# Altium schematic symbol library jx.SCHLIB: 54 symbols
Pins are listed as number, name and electrical type; pins without a type are passive.

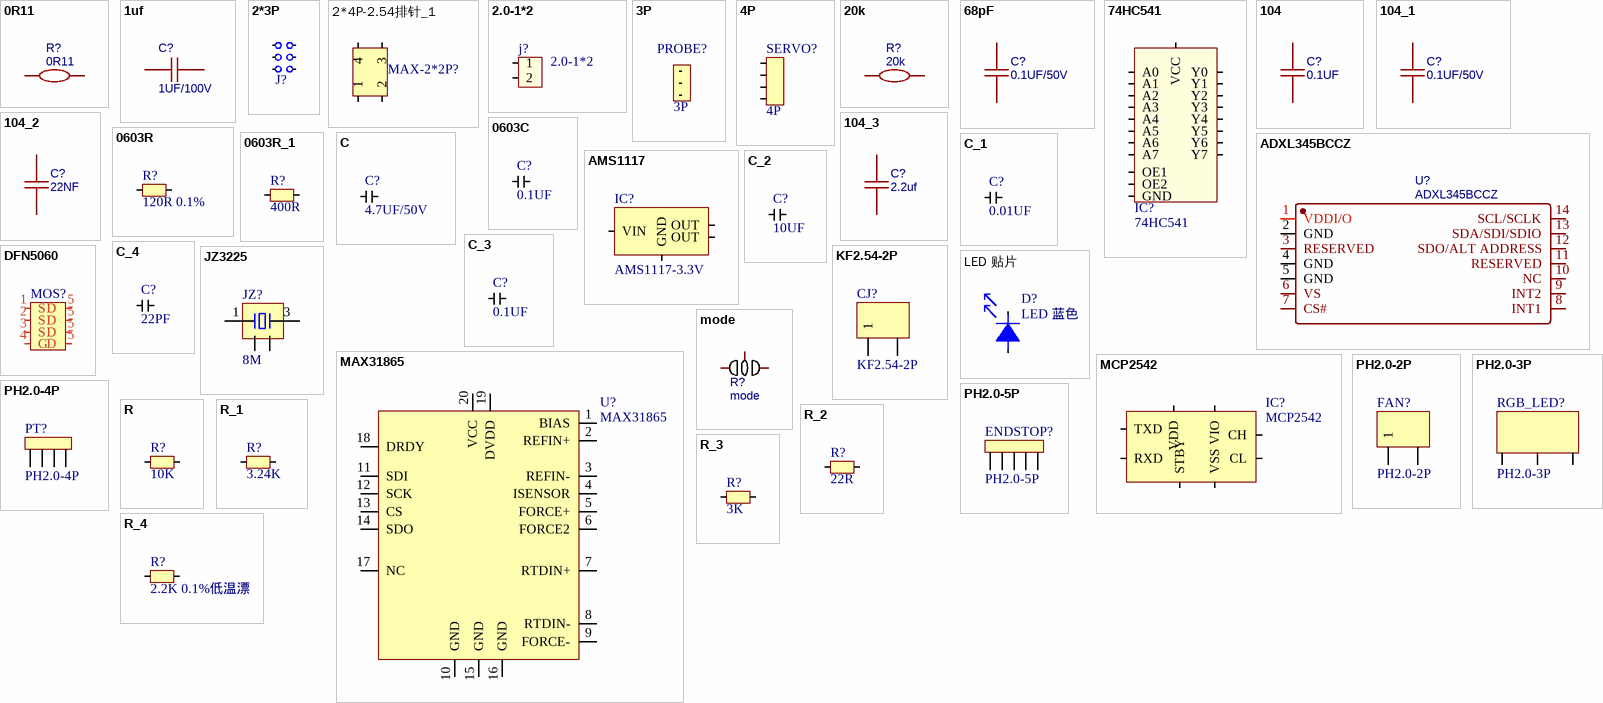
[diagram p0: symbols 0R11 to R_4]

## 0R11
designator R?
BOM_Manufacturer: Uniroyal Elec; BOM_Manufacturer Part: 0805W8F3922T5E; nameAlias: Resistance (Ohms); Contributor: LCSC; SMT Type: Extend; BOM_Supplier: LCSC; BOM_Supplier Part: C60005; BOM_LCSC Assembly: Yes; spicePre: R; spiceSymbolName: 0805W8F3922T5E_C60005
footprint R0805
footprint 0805
pins: 1, 2

## 1uf
designator C?, comment 1UF/100V
BOM_Manufacturer: KEMET; BOM_Manufacturer Part: C0603C225K4PACTU; nameAlias: Capacitance; Contributor: LCSC; BOM_Supplier: LCSC; BOM_Supplier Part: C452748; spicePre: C; spiceSymbolName: C0603C225K4PACTU
footprint C0603
footprint 0603
pins: 1, 2

## 2*3P
designator J?, comment 2*3排母-2.0-镀金  (value not drawn)
footprint 2*3P
footprint 2.0MM-2*3P -插针
footprint 2.0MM-2*3P 排母
pins: 1, 2, 3, 4, 5, 6

## 2*4P-2.54排针_1
designator MAX-2*2P?  (value not drawn)
footprint MX4.2-2*2P
pins: 1, 2, 3, 4

## 2.0-1*2
designator j?
footprint 2.0MM-1*2P -插针
pins: 1, 2

## 3P
designator PROBE?
footprint 3P
footprint 2.54排针-3P贴片
pins: 1, 2, 3

## 4P
designator SERVO?
footprint 4p
pins: 1, 2, 3, 4

## 20k
designator R?
BOM_Manufacturer: TA-I Tech; BOM_Manufacturer Part: RMS04FT1821; nameAlias: Resistance (Ohms); Contributor: LCSC; BOM_Supplier: LCSC; BOM_Supplier Part: C208812; spicePre: R; spiceSymbolName: RMS04FT1821
footprint R0402
footprint 0402
footprint 0603
pins: 1, 2

## 68pF
designator C?, comment 0.1UF/50V
BOM_Manufacturer: Guangdong Fenghua Advanced Tech; BOM_Manufacturer Part: 0402CG680J250NT; nameAlias: Capacitance; Contributor: LCSC; BOM_Supplier: LCSC; BOM_Supplier Part: C285179; spicePre: C; spiceSymbolName: 0402CG680J250NT
footprint C0402
pins: 1, 2

## 74HC541
designator IC?
footprint TSSOP-20
pins: 1 OE1, 2 A0, 3 A1, 4 A2, 5 A3, 6 A4, 7 A5, 8 A6, 9 A7, 10 GND, 11 Y7, 12 Y6, 13 Y5, 14 Y4, 15 Y3, 16 Y2, 17 Y1, 18 Y0, 19 OE2, 20 VCC

## 104
designator C?, comment 0.1UF
BOM_Manufacturer: Guangdong Fenghua Advanced Tech; BOM_Manufacturer Part: 0402CG680J250NT; nameAlias: Capacitance; Contributor: LCSC; BOM_Supplier: LCSC; BOM_Supplier Part: C285179; spicePre: C; spiceSymbolName: 0402CG680J250NT
footprint C0402
footprint 0402
footprint 0603
pins: 1, 2

## 104_1
designator C?, comment 0.1UF/50V
BOM_Manufacturer: Guangdong Fenghua Advanced Tech; BOM_Manufacturer Part: 0402CG680J250NT; nameAlias: Capacitance; Contributor: LCSC; BOM_Supplier: LCSC; BOM_Supplier Part: C285179; spicePre: C; spiceSymbolName: 0402CG680J250NT
footprint C0402
footprint 0402
footprint 0603
pins: 1, 2

## 104_2
designator C?, comment 22NF
BOM_Manufacturer: Guangdong Fenghua Advanced Tech; BOM_Manufacturer Part: 0402CG680J250NT; nameAlias: Capacitance; Contributor: LCSC; BOM_Supplier: LCSC; BOM_Supplier Part: C285179; spicePre: C; spiceSymbolName: 0402CG680J250NT
footprint C0402
footprint 0402
footprint 0603
pins: 1, 2

## 104_3
designator C?, comment 2.2uf
BOM_Manufacturer: Guangdong Fenghua Advanced Tech; BOM_Manufacturer Part: 0402CG680J250NT; nameAlias: Capacitance; Contributor: LCSC; BOM_Supplier: LCSC; BOM_Supplier Part: C285179; spicePre: C; spiceSymbolName: 0402CG680J250NT
footprint C0402
footprint 0402
footprint 0603
pins: 1, 2

## 0603C
designator C?, comment 0.1UF
footprint 0603C
footprint 0805
pins: 1, 2

## 0603R
designator R?, comment 120R 0.1%
footprint 0603
pins: 1, 2

## 0603R_1
designator R?, comment 400R
footprint 0603
pins: 1, 2

## ADXL345BCCZ
designator U?
BOM_Manufacturer: ADI(亚德诺)/LINEAR; Contributor: LCSC; BOM_Supplier: LCSC; BOM_Supplier Part: C579456; BOM_Manufacturer Part: ADXL345BCCZ; BOM_JLCPCB Part Class: Extended Part; spicePre: U; spiceSymbolName: ADXL345BCCZ
footprint LGA-14_L5.0-W3.0-P0.80-BL
footprint ADXL345
pins: 1 VDDI/O, 2 GND, 3 RESERVED, 4 GND, 5 GND, 6 VS, 7 CS#, 8 INT1, 9 INT2, 10 NC, 11 RESERVED, 12 SDO/ALT ADDRESS, 13 SDA/SDI/SDIO, 14 SCL/SCLK

## AMS1117
designator IC?, comment AMS1117-3.3V
footprint AMS1117
pins: 1 GND, 2 OUT, 3 VIN, 4 OUT

## C
designator C?, comment 4.7UF/50V
footprint 0603C
footprint 1206
footprint C0402
footprint C0402
footprint C0805
pins: 1, 2

## C_1
designator C?, comment 0.01UF
footprint 0603C
footprint 1206
footprint C0402
footprint C0402
footprint C0805
pins: 1, 2

## C_2
designator C?, comment 10UF
footprint 0603C
footprint 1206
footprint C0402
footprint C0402
footprint C0805
pins: 1, 2

## C_3
designator C?, comment 0.1UF
footprint 0603C
footprint 1206
footprint C0402
footprint C0402
footprint C0805
pins: 1, 2

## C_4
designator C?, comment 22PF
footprint 0603C
footprint 1206
footprint C0402
footprint C0402
footprint C0805
pins: 1, 2

## DFN5060
designator MOS?, comment HSBB6115  (value not drawn)
footprint DFN-5060
footprint PRPAK3*3
pins: 1 S, 2 S, 3 S, 4 G, 5 D, 5 D, 5 D, 5 D

## JZ3225
designator JZ?, comment 8M
footprint OSC-3225-4P
pins: 1, 2, 3, 4

## KF2.54-2P
designator CJ?
footprint KF2.54-2P
pins: 1, 2

## LED 贴片
designator D?, comment LED 蓝色
footprint 0603LED
footprint 0805灯
footprint 0402led
pins: 1, 2

## MAX31865
designator U?
footprint QFN20
pins: 1 BIAS, 2 REFIN+, 3 REFIN-, 4 ISENSOR, 5 FORCE+, 6 FORCE2, 7 RTDIN+, 8 RTDIN-, 9 FORCE-, 10 GND, 11 SDI, 12 SCK, 13 CS, 14 SDO, 15 GND, 16 GND, 17 NC, 18 DRDY, 19 DVDD, 20 VCC

## MCP2542
designator IC?
footprint SOIC-8
pins: 1 TXD, 2 VSS, 3 VDD, 4 RXD, 5 VIO, 6 CL, 7 CH, 8 STBY

## mode
designator R?
Contributor: FLYMAKER; spicePre: R; spiceSymbolName: mode
footprint MODE
footprint switch2
footprint switch2
pins: 1, 2, 3

## PH2.0-2P
designator FAN?
footprint PH2.0-2P
pins: 1, 2

## PH2.0-3P
designator RGB_LED?
footprint PH2.0-3P
pins: 1, 2, 3

## PH2.0-4P
designator PT?
footprint PH2.0-4P
pins: 1, 2, 3, 4

## PH2.0-5P
designator ENDSTOP?
footprint PH2.0-5P
pins: 1, 2, 3, 4, 5

## R
designator R?, comment 10K
footprint 0603
footprint 0805
footprint 1206
footprint R0402
pins: 1, 2

## R_1
designator R?, comment 3.24K
footprint 0603
footprint 0805
footprint 1206
footprint R0402
pins: 1, 2

## R_2
designator R?, comment 22R
footprint 0603
footprint 0805
footprint 1206
footprint R0402
pins: 1, 2

## R_3
designator R?, comment 3K
footprint 0603
footprint 0805
footprint 1206
footprint R0402
pins: 1, 2

## R_4
designator R?, comment 2.2K 0.1%低温漂
footprint 0603
footprint 0805
footprint 1206
footprint R0402
pins: 1, 2

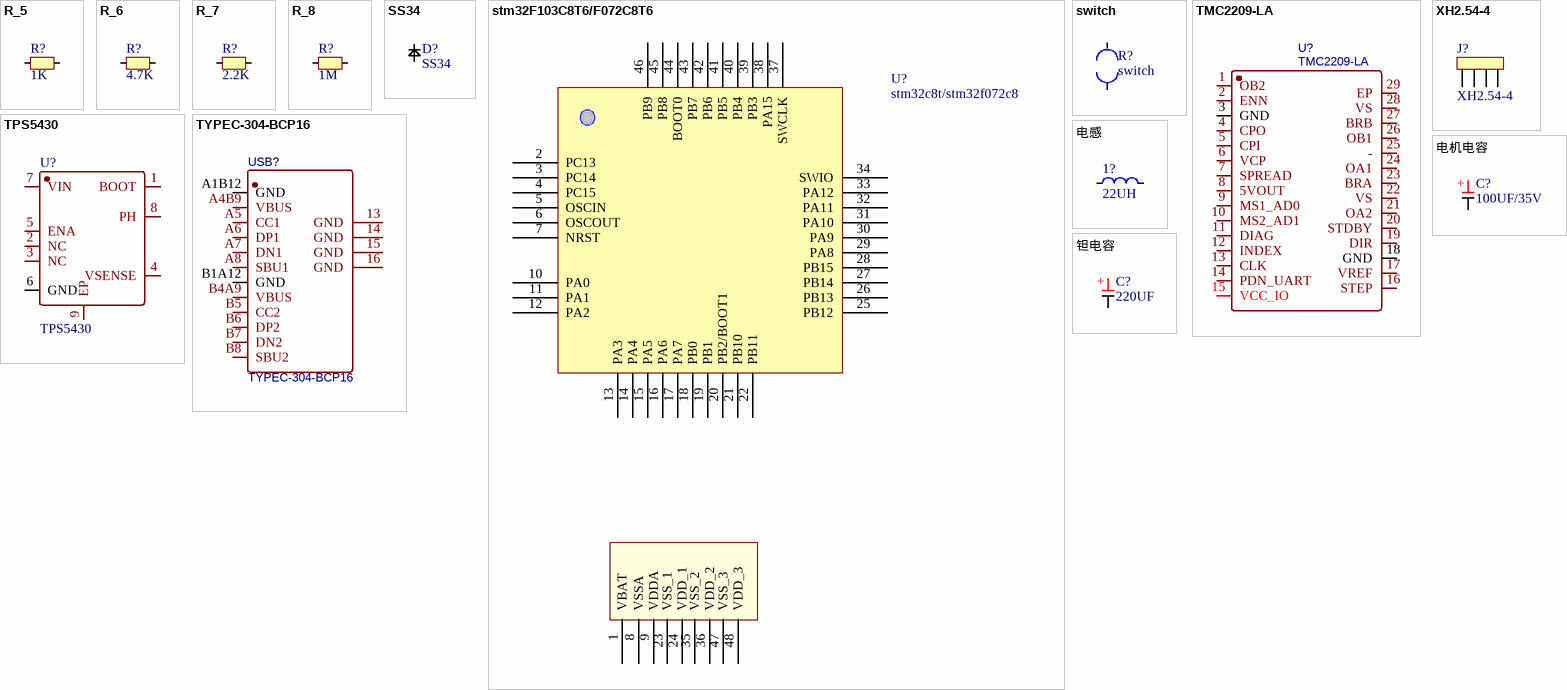
[diagram p1: symbols R_5 to 钽电容]

## R_5
designator R?, comment 1K
footprint 0603
footprint 0805
footprint 1206
footprint R0402
pins: 1, 2

## R_6
designator R?, comment 4.7K
footprint 0603
footprint 0805
footprint 1206
footprint R0402
pins: 1, 2

## R_7
designator R?, comment 2.2K
footprint 0603
footprint 0805
footprint 1206
footprint R0402
pins: 1, 2

## R_8
designator R?, comment 1M
footprint 0603
footprint 0805
footprint 1206
footprint R0402
pins: 1, 2

## SS34
designator D?
footprint SMA
pins: 1, 2

## stm32F103C8T6/F072C8T6
designator U?, comment stm32c8t/stm32f072c8
footprint LQFP-48
pins: 1 VBAT, 2 PC13, 3 PC14, 4 PC15, 5 OSCIN, 6 OSCOUT, 7 NRST, 8 VSSA, 9 VDDA, 10 PA0, 11 PA1, 12 PA2, 13 PA3, 14 PA4, 15 PA5, 16 PA6, 17 PA7, 18 PB0, 19 PB1, 20 PB2/BOOT1, 21 PB10, 22 PB11, 23 VSS_1, 24 VDD_1, 25 PB12, 26 PB13, 27 PB14, 28 PB15, 29 PA8, 30 PA9, 31 PA10, 32 PA11, 33 PA12, 34 SWIO, 35 VSS_2, 36 VDD_2, 37 SWCLK, 38 PA15, 39 PB3, 40 PB4, 41 PB5, 42 PB6, 43 PB7, 44 BOOT0, 45 PB8, 46 PB9, 47 VSS_3, 48 VDD_3

## switch
designator R?
footprint switch
pins: 1, 2

## TMC2209-LA
designator U?
BOM_Manufacturer: TRINAMIC Motion Control GmbH; Contributor: LCSC; SMT Type: Extend; BOM_Supplier: LCSC; BOM_Supplier Part: C465949; BOM_Manufacturer Part: TMC2209-LA; BOM_LCSC Assembly: Yes; spicePre: U; spiceSymbolName: TMC2209-LA
footprint QFN-28_L5.0-W5.0-P0.50-BL-EP
footprint TMC2209
pins: 1 OB2, 2 ENN, 3 GND, 4 CPO, 5 CPI, 6 VCP, 7 SPREAD, 8 5VOUT, 9 MS1_AD0, 10 MS2_AD1, 11 DIAG, 12 INDEX, 13 CLK, 14 PDN_UART, 15 VCC_IO, 16 STEP, 17 VREF, 18 GND, 19 DIR, 20 STDBY, 21 OA2, 22 VS, 23 BRA, 24 OA1, 25 -, 26 OB1, 27 BRB, 28 VS, 29 EP

## TPS5430
designator U?
footprint TPS5430
pins: 1 BOOT, 2 NC, 3 NC, 4 VSENSE, 5 ENA, 6 GND, 7 VIN, 8 PH, 9 EP

## TYPEC-304-BCP16
designator USB?
BOM_Manufacturer: XUNPU; Contributor: LCSC; BOM_Supplier: LCSC; BOM_Supplier Part: C720629; BOM_Manufacturer Part: TYPEC-304-BCP16; spicePre: U; spiceSymbolName: TYPEC-304-BCP16
footprint USB-C-SMD_TYPEC-304-BCP16
footprint USB-C-SMD_TYPEC-304-BCP16
pins: 13 GND, 14 GND, 15 GND, 16 GND, A1B12 GND, A4B9 VBUS, A5 CC1, A6 DP1, A7 DN1, A8 SBU1, B1A12 GND, B4A9 VBUS, B5 CC2, B6 DP2, B7 DN2, B8 SBU2

## XH2.54-4
designator J?
footprint W-XH-2.54-4
footprint XH2.54-4
pins: 1, 2, 3, 4

## 电感
designator 1?, comment 22UH
footprint 7*7电感
footprint 1010L
pins: 1, 2

## 电机电容
designator C?, comment 100UF/35V
footprint 电机电容器
footprint 6.3*7.7电解电容
pins: 1, 2
text: +

## 钽电容
designator C?, comment 220UF
328B
footprint 3528B
pins: 1, 2
text: +